# Altium footprint library 74CBTLV3257BQ115.PcbLib: 1 footprints
Each footprint in its own frame and in the unit in brackets; x right, y up, seen from the top. Pads: shape width x height; smd on the part's side, far side on the other; paste and mask are expansions set on the pad; w line width, h text height; cw(c..) or ccw(c..) is an arc to the next point about the centre after c.
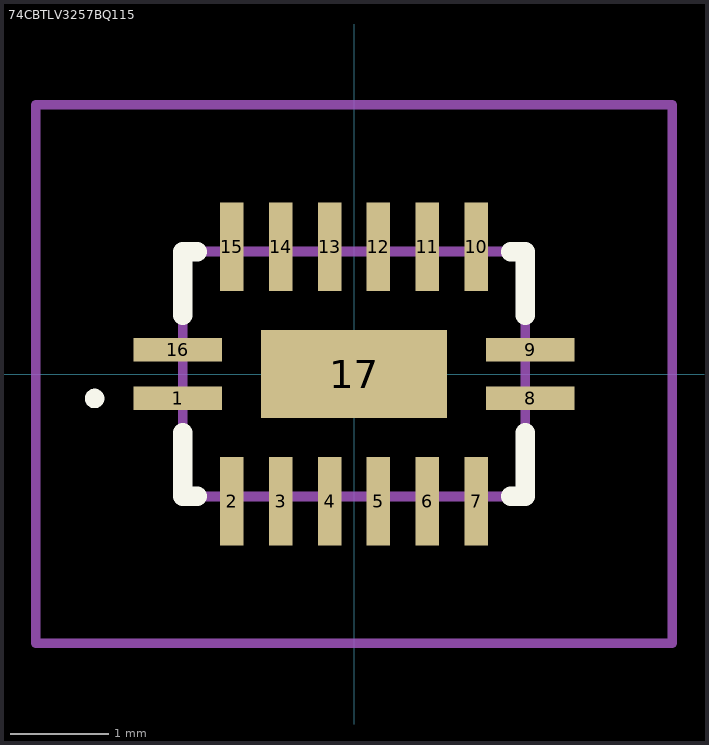
[diagram p0: the footprint, top view; thin cyan lines are the x and y axes]

## 74CBTLV3257BQ115 [mm]
pads (17):
  rect 0.9x0.24 smd: 1(-1.8,-0.25) 8(1.8,-0.25) 9(1.8,0.25) 16(-1.8,0.25)
  rect 0.24x0.9 smd: 2(-1.25,-1.3) 3(-0.75,-1.3) 4(-0.25,-1.3) 5(0.25,-1.3) 6(0.75,-1.3) 7(1.25,-1.3) 10(1.25,1.3) 11(0.75,1.3) 12(0.25,1.3) 13(-0.25,1.3) 14(-0.75,1.3) 15(-1.25,1.3)
  rect 1.9x0.9 smd: 17(0,0)
Top Overlay:
  lines w0.1: -2.7,-0.25 cw(c-2.65,-0.25) -2.6,-0.25 ; -2.7,-0.25 -2.7,-0.25 ; -2.7,-0.25 ccw(c-2.65,-0.25) -2.6,-0.25 ; -2.6,-0.25 -2.6,-0.25
  lines w0.2: -1.75,-0.6 -1.75,-1.25 -1.6,-1.25 ; -1.75,0.6 -1.75,1.25 -1.6,1.25 ; 1.6,-1.25 1.75,-1.25 1.75,-0.6 ; 1.6,1.25 1.75,1.25 1.75,0.6
Mechanical 15:
  lines w0.1: -1.75,-1.25 1.75,-1.25 1.75,1.25 -1.75,1.25 -1.75,-1.25
Mechanical 20:
  lines w0.1: -3.25,-2.75 3.25,-2.75 3.25,2.75 -3.25,2.75 -3.25,-2.75